# Altium schematic symbol library BZV55-CXX.SchLib: 1 symbol
Pins are listed as number, name and electrical type; pins without a type are passive.

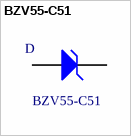
[diagram p0: symbol BZV55-C51]

## BZV55-C51
designator D  value BZV55-C51  (hidden comment: *)
Manufacturer Code: BZV55C51; Manufacturer: MULTICOMP; Forward Voltage: 900mV; Forward Current: 250mA; Farnell Code: 1466547; Unit Price: 0,065 €
footprint SOD80C (Footprint not found)
pins: 1 A, 2 K